# Altium schematic symbol library 2002_B_CapteurMeteoWifi.SchLib: 17 symbols
Pins are listed as number, name and electrical type; pins without a type are passive.

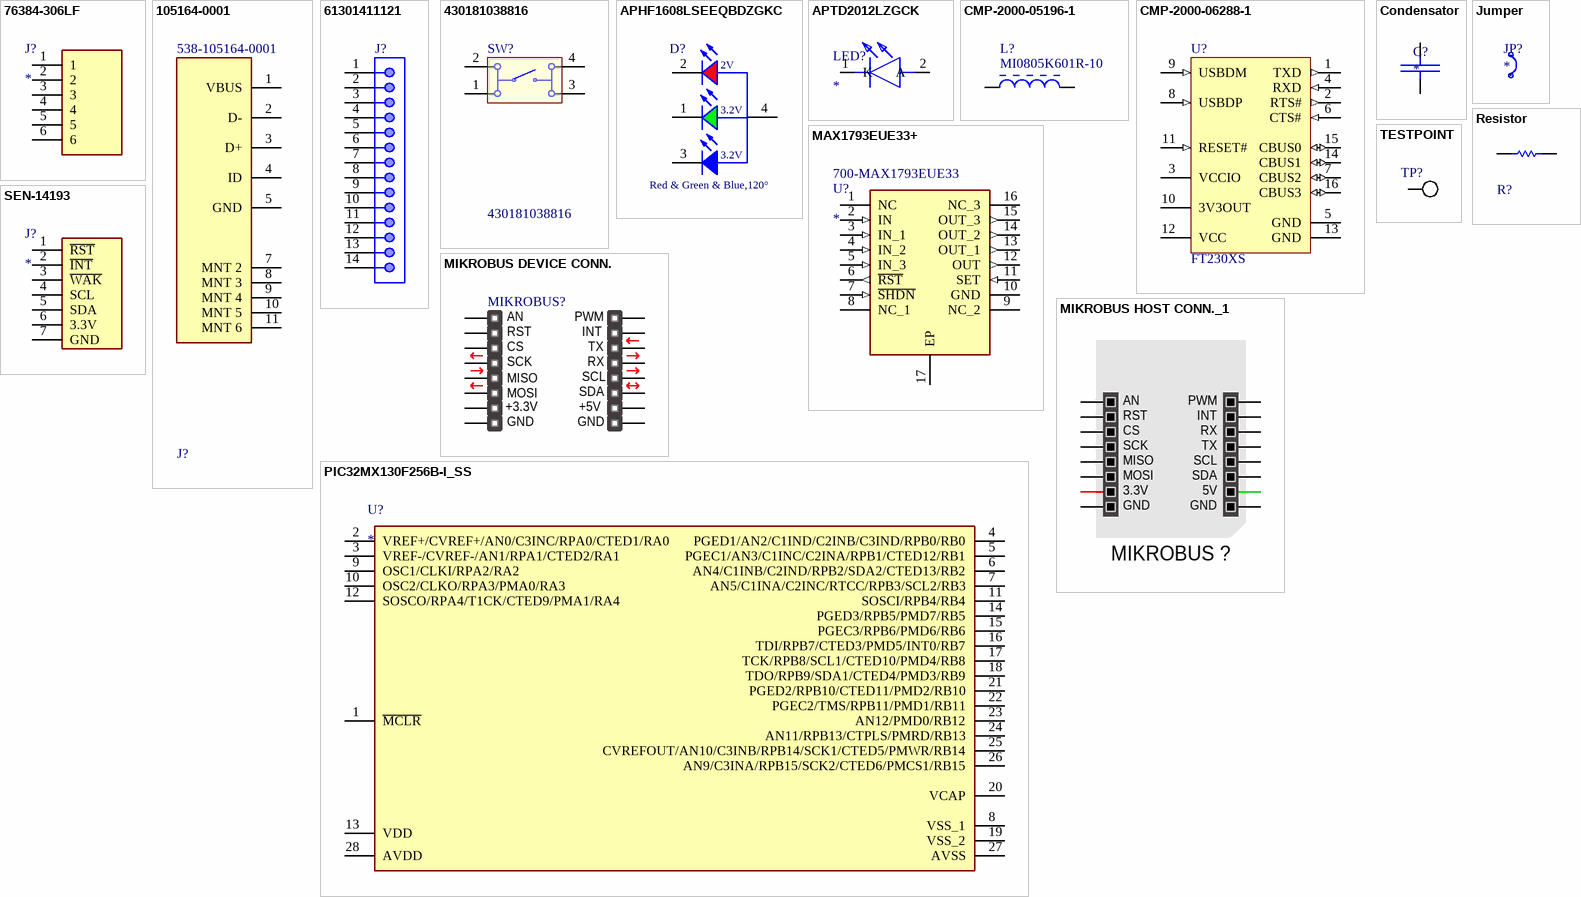
[diagram p0: symbols 76384-306LF to TESTPOINT]

## 76384-306LF
designator J?
Connector; Manufacturer_Name: Amphenol; Manufacturer_Part_Number: 76384-306LF; Datasheet Link: https://www.mouser.co.uk/datasheet/2/18/76384-1363448.pdf; Height: 9.34mm
footprint SHDR6W62P0X254_1X6_1424X460X934P
pins: 1, 2, 3, 4, 5, 6

## 105164-0001
designator J?  Supplier Part Number 1: 538-105164-0001  (hidden comment: *)
Connecteurs USB MICRO USB B RECEPT TOP MOUNT; Supplier 1: Mouser
footprint Molex_105164-0001_0
pins: 1 VBUS, 2 D-, 3 D+, 4 ID, 5 GND, 7 MNT 2, 8 MNT 3, 9 MNT 4, 10 MNT 5, 11 MNT 6

## 61301411121
designator J?
WR-PHD Pin Header, THT, pitch 2.54mm, Single Row, Vertical, 14pin; Part Number: 61301411121; Pin Number: 14; Gender: Male; Rated Current: 3A; Working Voltage: 250VAC; Withstanding Voltage: 500VAC; Contact Resistance: 20mOhm; ComponentLink1Description: Manufacturer; ComponentLink1URL: http://www.we-online.de; ComponentLink2Description: Datasheet; ComponentLink2URL: https://katalog.we-online.de/em/datasheet/6130xx11121.pdf; Published Date: June 2019; Publisher: Wurth Elektronik; Pitch: 2.54mm; Operating Temperature: -40 to +105degC; Mounting Technology: THT; Packaging: Bag; Row Number: Single; Orientation: Vertical
footprint 61301411121 (Pin Header, pitch 2.54 mm, THT, Vertical, single row, 14p)
pins: 1, 2, 3, 4, 5, 6, 7, 8, 9, 10, 11, 12, 13, 14

## 430181038816
designator SW?
WS-TASV SMD Tact Switch 4.5X4.5 mm; Manufacturer: Wuerth Elektronik; NoPins: 04; ComponentLink1Description: Manufacturer URL; ComponentLink2Description: Datasheet; ComponentLink1URL: http://www.we-online.com; PartNumber: 430181038816; PackageReference: 430181038816; ComponentLink2URL: http://katalog.we-online.de/em/datasheet/430181038816.pdf
footprint 430181038816 (4.5*4.5mm vertical type, SMD, height 3.8mm, black actuator, 160gf, T&R)
pins: 1, 2, 3, 4

## APHF1608LSEEQBDZGKC
designator D?, comment Red & Green & Blue,120°
DEL standard - CMS RGB 0603 SMD; Part Number: 150066M153000; Forward Voltage: 3.3 V@Blue, 3.3 V@Green, 2 V@Red; Peak Wavelength: 468 nm@Blue, 520 nm@Green, 632 nm@Red; Dominant Wavelength: 470 nm@Blue, 525 nm@Green, 624 nm@Red; Luminous Intensity: 180 mcd@Blue, 900 mcd@Green, 285 mcd@Red; ComponentLink1Description: Manufacturer; ComponentLink1URL: http://www.we-online.de; ComponentLink2Description: Datasheet; ComponentLink2URL: http://katalog.we-online.de/led/datasheet/150066M153000.pdf; Published Date: May 2018; Publisher: Wurth Elektronik; Size: 0606; Viewing Angle: 120°; Operating Temperature: -40 to 85 degC; Emitting Color: Red & Green & Blue; Mounting Technology: SMT
footprint 150066M153000
pins: 1 K, 2 K, 3 A, 4 K
text: 2V; 3.2V

## APTD2012LZGCK
designator LED?
LED; Manufacturer_Name: Kingbright; Manufacturer_Part_Number: APTD2012LZGCK; Datasheet Link: https://componentsearchengine.com//APTD2012LZGCK.pdf; Height: 1.05mm; Mouser2 Part Number: 604-APTD2012LZGCK; Mouser2 Price/Stock: https://www.mouser.com/Search/Refine.aspx?Keyword=604-APTD2012LZGCK
footprint LEDC2012X105N (Footprint not found)
pins: 1 K, 2 A

## CMP-2000-05196-1
designator L?, comment MI0805K601R-10
Chip Bead for Power Filtering, 1500 mA, 600 Ohm, -40 to 125 degC, 0805 (2012 Metric), RoHS, Tape and Reel; Manufacturer: Laird; Filter Type: PowerLine; Current Rating (Max): 1.5A; Catalog Drawings: (HI,HZ,LI,MI)0805Series_1.10mmMax.Height; Impedance @ Frequency: 600Ohm@100MHz; Number of Lines: 1; DC Resistance (DCR) (Max): 100mOhm; Other Names: 240-2390-1; Kits: 240-2227-ND-KITEMIFERRITEBEADCHIPSMD; Online Catalog: MISeries; Standard Package: 1; Datasheet Version: Rev. A, 01/2004; Height (Max): 0.043"(1.10mm); Category: Filters; Operating Temperature: -40degC~125degC; Package Description: 2-Pin Surface Mount Device, Body 2 x 1.25 mm; Package / Case: 0805(2012Metric); Package Reference: MI0805K601R-10-2; Packaging: CutTape(CT); Ratings: -; Mounting Type: SurfaceMount; Datasheet URL: https://datasheet.ciiva.com/3082/mi0805k601r-10-a-vp-3082219.pdf; Size / Dimension: 0.079"Lx0.049"W(2.00mmx1.25mm); Family: FerriteBeadsandChips; Manufacturer URL: https://www.lairdtech.com; Series: MI; Supplier: Digikey; Supplier Ref.: 240-2390-1-ND; Supplier min. qty: 1; Supplier unit price: 0.11
footprint LIRD-MI0805K601R-10-2_V (Chip Bead, 2-Leads, Body 2.2 x1.45 mm)
pins: 1, 2

## CMP-2000-06288-1
designator U?, comment FT230XS
USB to Basic UART IC, 2.97 to 5.5 V, -40 to 85 degC, 16-Pin SSOP, RoHS; Manufacturer: FTDI; Data Rate: 3Mbaud; USB Standard: USB2.0; USB Type: Transceiver; No. of Pins: 16Pins; Supply Voltage Max: 5.5V; SVHC: NoSVHC(17-Dec-2015); Supply Voltage Min: 2.97V; MSL: MSL3-168hours; Datasheet Version: Rev. 1.4, 05/2016; Interface Case Style: SSOP; Datasheet URL: http://www.ftdichip.com/Support/Documents/DataSheets/ICs/DS_FT230X.pdf; Packaging: CutTape; Package Description: 16-Pin Shrink Small Outline Package Integrated Circuit, Body 4.9 x 3.9 mm, Pitch 0.635 mm; Operating Temperature Min: -40°C; Mounting Technology: SurfaceMount; Package Reference: SSOP-16; Manufacturer URL: http://www.ftdichip.com/; Product Range: -; Operating Temperature Max: 85°C; No. of Ports: -; Supplier: Digikey; Supplier Ref.: 768-1135-1-ND; Supplier min. qty: 1; Supplier unit price: 2.00
footprint FTDI-SSOP-16_L (SOP, 16-Leads, Body 5x4mm, Pitch 0.635mm, IPC High Density)
footprint FTDI-SSOP-16_M (SOP, 16-Leads, Body 5x4mm, Pitch 0.635mm, IPC Low Density)
footprint FTDI-SSOP-16_N (SOP, 16-Leads, Body 5x4mm, Pitch 0.635mm, IPC Medium Density)
pins: 1 TXD (out) "Transmit Asynchronous Data Output.", 2 RTS# (out) "Request to Send Control Output / Handshake Signal.", 3 VCCIO (power) "1V8 - 3V3 supply for the IO cells", 4 RXD (in) "Receiving Asynchronous Data Input.", 5 GND (power) "0V Ground input.", 6 CTS# (in) "Clear To Send Control Input / Handshake Signal.", 7 CBUS2 (io) "Configurable CBUS I/O Pin.", 8 USBDP (in) "USB Data Signal Plus.", 9 USBDM (in) "USB Data Signal Minus.", 10 3V3OUT (power) "3V3 output at 50mA. May be used to power VCCIO.", 11 RESET# (in) "Reset input (active low).", 12 VCC (power) "5 V (or 3V3) supply to IC", 13 GND (power) "0V Ground input.", 14 CBUS1 (io) "Configurable CBUS I/O Pin.", 15 CBUS0 (io) "Configurable CBUS I/O Pin.", 16 CBUS3 (io) "Configurable CBUS I/O Pin."

## Condensator
designator C?
0805 Condensator; Value: *
footprint LIRD-MI0805K601R-10-2_V (Chip Bead, 2-Leads, Body 2.2 x1.45 mm)
pins: 1, 2

## Jumper
designator JP?
footprint connector_2PIN
pins: 1, 2

## MAX1793EUE33+
designator U?  Supplier Part Number 1: 700-MAX1793EUE33
Integrated Circuit; Manufacturer_Name: Maxim Integrated; Manufacturer_Part_Number: MAX1793EUE33+; Datasheet Link: http://datasheets.maximintegrated.com/en/ds/MAX1793.pdf; Height: 1.1mm; Supplier 1: Mouser
footprint SOP65P638X110-17N
pins: 1 NC, 2 IN (in), 3 IN_1 (in), 4 IN_2 (in), 5 IN_3 (in), 6 ~{RST} (out), 7 ~{SHDN} (in), 8 NC_1, 9 NC_2, 10 GND (power), 11 SET (in), 12 OUT (out), 13 OUT_1 (out), 14 OUT_2 (out), 15 OUT_3 (out), 16 NC_3, 17 EP

## MIKROBUS DEVICE CONN.
designator MIKROBUS?  (value not drawn)
mikroBUS Target Header
footprint MIKRO_BUS_LARGE
footprint MIKRO_BUS_MINI
footprint MIKRO_BUS_MIDI
pins: 1 AN, 2 RST, 3 CS, 4 SCK, 5 MISO, 6 MOSI, 7 3.3V, 8 GND, 9 GND, 10 5V, 11 SDA, 12 SCL, 13 TX, 14 RX, 15 INT, 16 PWM
2 alternate drawings of the same symbol
text: +3.3V; +5V

## MIKROBUS HOST CONN._1
designator MIKROBUS ?, comment MIKROBUS HOST CONN.  (value not drawn)
mikroBUS Host Socket; SMD: No
footprint MIKROBUS HOST CONN.
pins: 1 AN, 2 RST, 3 CS, 4 SCK, 5 MISO, 6 MOSI, 7 3.3V, 8 GND, 9 GND, 10 5V, 11 SDA, 12 SCL, 13 TX, 14 RX, 15 INT, 16 PWM

## PIC32MX130F256B-I_SS
designator U?
Integrated Circuit; Manufacturer_Name: Microchip; Manufacturer_Part_Number: PIC32MX130F256B-I/SS; Datasheet Link: https://componentsearchengine.com/Datasheets/1/PIC32MX130F256B-I_SS.pdf; Height: 2mm; Mouser Part Number: 579-MX130F256BISS; Mouser Price/Stock: https://www.mouser.com/Search/Refine.aspx?Keyword=579-MX130F256BISS; RS Part Number: 8806720P; RS Price/Stock: http://uk.rs-online.com/web/p/products/8806720P
footprint SOP65P780X200-28N
pins: 1 ~{MCLR}, 2 VREF+/CVREF+/AN0/C3INC/RPA0/CTED1/RA0, 3 VREF-/CVREF-/AN1/RPA1/CTED2/RA1, 4 PGED1/AN2/C1IND/C2INB/C3IND/RPB0/RB0, 5 PGEC1/AN3/C1INC/C2INA/RPB1/CTED12/RB1, 6 AN4/C1INB/C2IND/RPB2/SDA2/CTED13/RB2, 7 AN5/C1INA/C2INC/RTCC/RPB3/SCL2/RB3, 8 VSS_1, 9 OSC1/CLKI/RPA2/RA2, 10 OSC2/CLKO/RPA3/PMA0/RA3, 11 SOSCI/RPB4/RB4, 12 SOSCO/RPA4/T1CK/CTED9/PMA1/RA4, 13 VDD, 14 PGED3/RPB5/PMD7/RB5, 15 PGEC3/RPB6/PMD6/RB6, 16 TDI/RPB7/CTED3/PMD5/INT0/RB7, 17 TCK/RPB8/SCL1/CTED10/PMD4/RB8, 18 TDO/RPB9/SDA1/CTED4/PMD3/RB9, 19 VSS_2, 20 VCAP, 21 PGED2/RPB10/CTED11/PMD2/RB10, 22 PGEC2/TMS/RPB11/PMD1/RB11, 23 AN12/PMD0/RB12, 24 AN11/RPB13/CTPLS/PMRD/RB13, 25 CVREFOUT/AN10/C3INB/RPB14/SCK1/CTED5/PMWR/RB14, 26 AN9/C3INA/RPB15/SCK2/CTED6/PMCS1/RB15, 27 AVSS, 28 AVDD

## Resistor
designator R?  (value not drawn)
0805 Resistor; Value: *
footprint LIRD-MI0805K601R-10-2_V (Chip Bead, 2-Leads, Body 2.2 x1.45 mm)
pins: 1, 2

## SEN-14193
designator J?
CCS811 kit; Manufacturer_Name: Amphenol; Manufacturer_Part_Number: 68604-804HLF; Datasheet Link: https://componentsearchengine.com/Datasheets/1/68604-804HLF.pdf; Height: 12.39mm; Mouser2 Part Number: 649-68604-804HLF; Mouser2 Price/Stock: https://www.mouser.com/Search/Refine.aspx?Keyword=649-68604-804HLF
footprint SEN-14193
pins: 1 ~{RST}, 2 ~{INT}, 3 ~{WAK}, 4 SCL, 5 SDA, 6 3.3V, 7 GND

## TESTPOINT
designator TP?, comment 5019  (value not drawn)
Test point smd
footprint TESTPOINT_SMD
pins: 1